# EAGLE library part ESP32-DEVKITV1_ESP32DEVKITV1 (library HexaWall-v1.1)
https://github.com/shridattdudhat
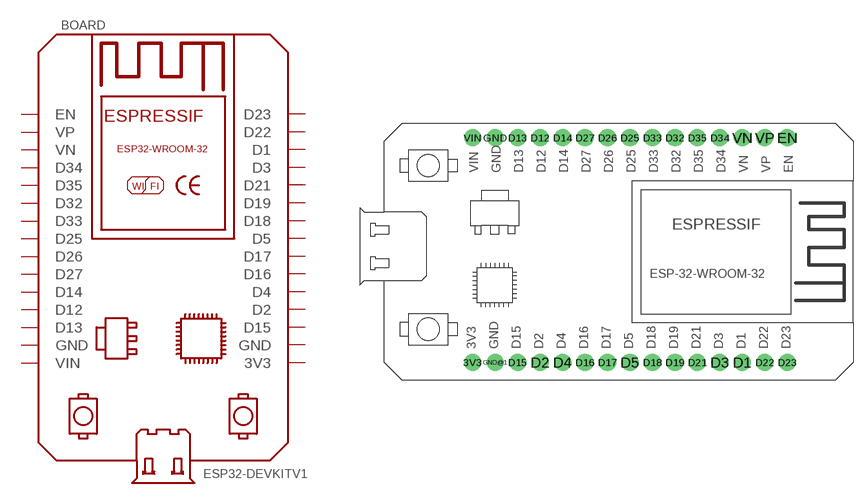
[diagram p0: symbol with the pads of ESP32-DEVKITV1_ESP32-DEVKITV1; footprint ESP32-DEVKITV1_ESP32-DEVKITV1]

Designator prefix BOARD

## ESP32-DEVKITV1_ESP32DEVKITV1, ESP32-DEVKITV1_ESP32DEVKITV1SHRIDATTDUDHAT  [ESP32-DEVKITV1_ESP32-DEVKITV1]
3V3  3V3
D1  D1
D2  D2
D3  D3
D4  D4
D5  D5
D12  D12
D13  D13
D14  D14
D15  D15
D16  D16
D17  D17
D18  D18
D19  D19
D21  D21
D22  D22
D23  D23
D25  D25
D26  D26
D27  D27
D32  D32
D33  D33
D34  D34
D35  D35
EN  EN
GND  GND
GND@1  GND
VIN  VIN
VN  VN
VP  VP

## Footprint ESP32-DEVKITV1_ESP32-DEVKITV1 (pad centres in mm)
drill 1 pad 1.93: 3V3 0,0; D1 30.48,0; D2 7.62,0; D3 27.94,0; D4 10.16,0; D5 17.78,0; D12 7.62,25.4; D13 5.08,25.4; D14 10.16,25.4; D15 5.08,0; D16 12.7,0; D17 15.24,0; D18 20.32,0; D19 22.86,0; D21 25.4,0; D22 33.02,0; D23 35.56,0; D25 17.78,25.4; D26 15.24,25.4; D27 12.7,25.4; D32 22.86,25.4; D33 20.32,25.4; D34 27.94,25.4; D35 25.4,25.4; EN 35.56,25.4; GND 2.54,25.4; GND@1 2.54,0; VIN 0,25.4; VN 30.48,25.4; VP 33.02,25.4